# EAGLE library part DS90C363 (library lvds)
+3.3V Programmable LVDS Transmitter 18-Bit Flat Panel Display (FPD) Link - 65 MHz, +3.3V LVDS Receiver 18-Bit Flat Panel Display (FPD) Link - 65 MHz The DS90C363 transmitter converts 21 bits of CMOS/TTL data into three LVDS (Low Voltage Differential Signaling) data streams. A phase-locked transmit clock is transmitted in par- allel with the data streams over a fourth LVDS link. Every cycle of the transmit clock 21 bits of input data are sampled and transmitted. The DS90CF364 receiver converts the LVDS data streams back into 21 bits of CMOS/TTL data. At a transmit clock frequency of 65 MHz, 18 bits of RGB data and 3 bits of LCD timing and control data (FPLINE, FPFRAME, DRDY) are transmitted at a rate of 455 Mbps per LVDS data channel. Using a 65 MHz clock, the data through- puts is 170 Mbytes/sec. The Transmitter is offered with pro- grammable edge data strobes for convenient interface with a variety of graphics controllers. The Transmitter can be pro- grammed for Rising edge strobe or Falling edge strobe through a dedicated pin. A Rising edge Transmitter will inter- operate with a Falling edge Receiver (DS90CF364) without any translation logic. This chipset is an ideal means to solve EMI and cable size problems associated with wide, high speed TTL interfaces.
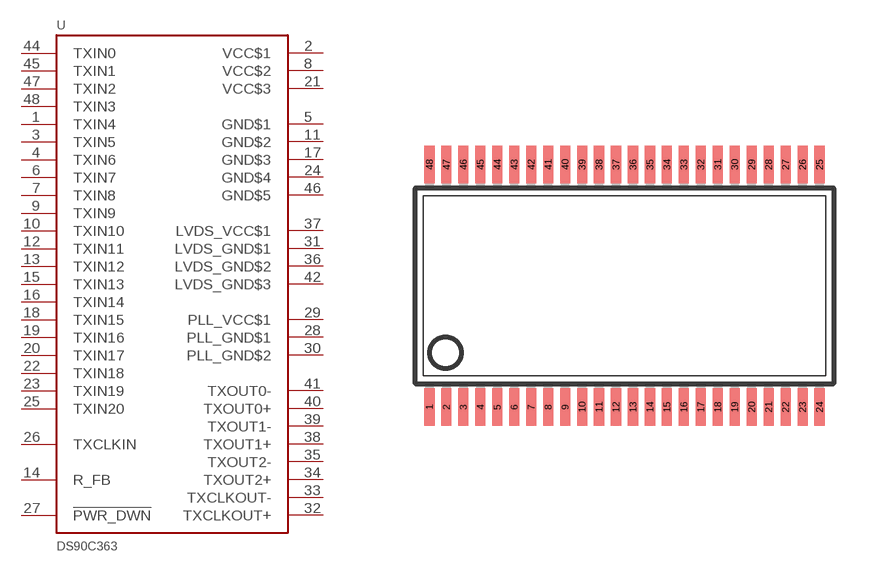
[diagram p0: symbol with the pads of TSSOP48; footprint TSSOP48]

Designator prefix -

## DS90C363  [TSSOP48]
1  TXIN4  in
2  VCC$1  pwr
3  TXIN5  in
4  TXIN6  in
5  GND$1  pwr
6  TXIN7  in
7  TXIN8  in
8  VCC$2  pwr
9  TXIN9  in
10  TXIN10  in
11  GND$2  pwr
12  TXIN11  in
13  TXIN12  in
14  R_FB  in
15  TXIN13  in
16  TXIN14  in
17  GND$3  pwr
18  TXIN15  in
19  TXIN16  in
20  TXIN17  in
21  VCC$3  pwr
22  TXIN18  in
23  TXIN19  in
24  GND$4  pwr
25  TXIN20  in
26  TXCLKIN  in
27  !PWR_DWN  in
28  PLL_GND$1  pwr
29  PLL_VCC$1  pwr
30  PLL_GND$2  pwr
31  LVDS_GND$1  pwr
32  TXCLKOUT+  out
33  TXCLKOUT-  out
34  TXOUT2+  out
35  TXOUT2-  out
36  LVDS_GND$2  pwr
37  LVDS_VCC$1  pwr
38  TXOUT1+  out
39  TXOUT1-  out
40  TXOUT0+  out
41  TXOUT0-  out
42  LVDS_GND$3  pwr
44  TXIN0  in
45  TXIN1  in
46  GND$5  pwr
47  TXIN2  in
48  TXIN3  in

## Footprint TSSOP48 (pad centres in mm)
Thin Shrink Small Outline Plastic 48 Source: http://www.lsicsi.com/pdfs/Drawings/TSSOP_OD.pdf
smd 0.3 x 1.1: 1 -5.75,-3.575; 2 -5.25,-3.575; 3 -4.75,-3.575; 4 -4.25,-3.575; 5 -3.75,-3.575; 6 -3.25,-3.575; 7 -2.75,-3.575; 8 -2.25,-3.575; 9 -1.75,-3.575; 10 -1.25,-3.575; 11 -0.75,-3.575; 12 -0.25,-3.575; 13 0.25,-3.575; 14 0.75,-3.575; 15 1.25,-3.575; 16 1.75,-3.575; 17 2.25,-3.575; 18 2.75,-3.575; 19 3.25,-3.575; 20 3.75,-3.575; 21 4.25,-3.575; 22 4.75,-3.575; 23 5.25,-3.575; 24 5.75,-3.575; 25 5.75,3.575; 26 5.25,3.575; 27 4.75,3.575; 28 4.25,3.575; 29 3.75,3.575; 30 3.25,3.575; 31 2.75,3.575; 32 2.25,3.575; 33 1.75,3.575; 34 1.25,3.575; 35 0.75,3.575; 36 0.25,3.575; 37 -0.25,3.575; 38 -0.75,3.575; 39 -1.25,3.575; 40 -1.75,3.575; 41 -2.25,3.575; 42 -2.75,3.575; 43 -3.25,3.575; 44 -3.75,3.575; 45 -4.25,3.575; 46 -4.75,3.575; 47 -5.25,3.575; 48 -5.75,3.575